# Altium footprint library 1755794.PcbLib: 1 footprints
Each footprint in its own frame and in the unit in brackets; x right, y up, seen from the top. Pads: shape width x height; smd on the part's side, far side on the other; paste and mask are expansions set on the pad; w line width, h text height; cw(c..) or ccw(c..) is an arc to the next point about the centre after c.
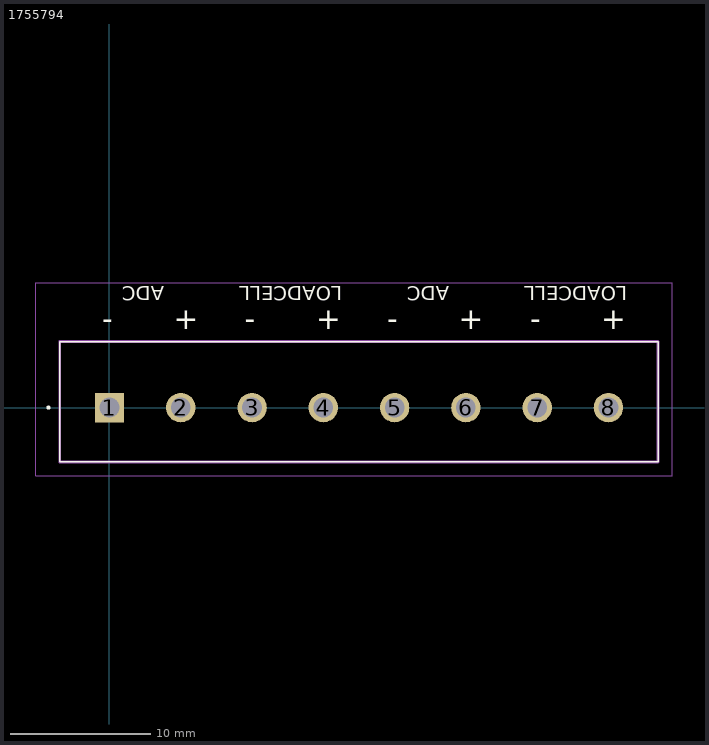
[diagram p0: the footprint, top view; thin cyan lines are the x and y axes]

## 1755794 [mm]
pads (8):
  rect 2.1x2.1 hole 1.4: 1(0,0)
  round 2.1 hole 1.4: 2(5.08,0) 3(10.16,0) 4(15.24,0) 5(20.32,0) 6(25.4,0) 7(30.48,0) 8(35.56,0)
Top Overlay:
  circle w0.2: c-4.35,0 r0.05
  lines w0.1: -3.54,-3.87 39.1,-3.87 39.1,4.7 -3.54,4.7 -3.54,-3.87
  text "+" at 4.572,5.588 h1.52
  text "+" at 14.732,5.588 h1.52
  text "+" at 24.892,5.588 h1.52
  text "+" at 35.052,5.588 h1.52
  text "ADC" at 24.214,8.636 h1.02
  text "LOADCELL" at 36.913,8.636 h1.02
  text "ADC" at 3.894,8.636 h1.02
  text "LOADCELL" at 16.593,8.636 h1.02
  text "-" at 29.972,5.588 h1.52
  text "-" at 19.812,5.588 h1.52
  text "-" at 9.652,5.588 h1.52
  text "-" at -0.508,5.588 h1.52
Mechanical 13:
  lines w0.2: -3.54,-3.87 39.1,-3.87 39.1,4.7 -3.54,4.7 -3.54,-3.87
Mechanical 15:
  lines w0.05: -5.25,-4.87 40.1,-4.87 40.1,8.89 -5.25,8.89 -5.25,-4.87
3D body "1755794.stp": height 12.58, standoff -3.32, extent -3.4,-4.52 39.24,4.08